# Altium footprint library pcb_mpptCharger.PcbLib: 10 footprints
Each footprint in its own frame and in the unit in brackets; x right, y up, seen from the top. Pads: shape width x height; smd on the part's side, far side on the other; paste and mask are expansions set on the pad; w line width, h text height; cw(c..) or ccw(c..) is an arc to the next point about the centre after c.
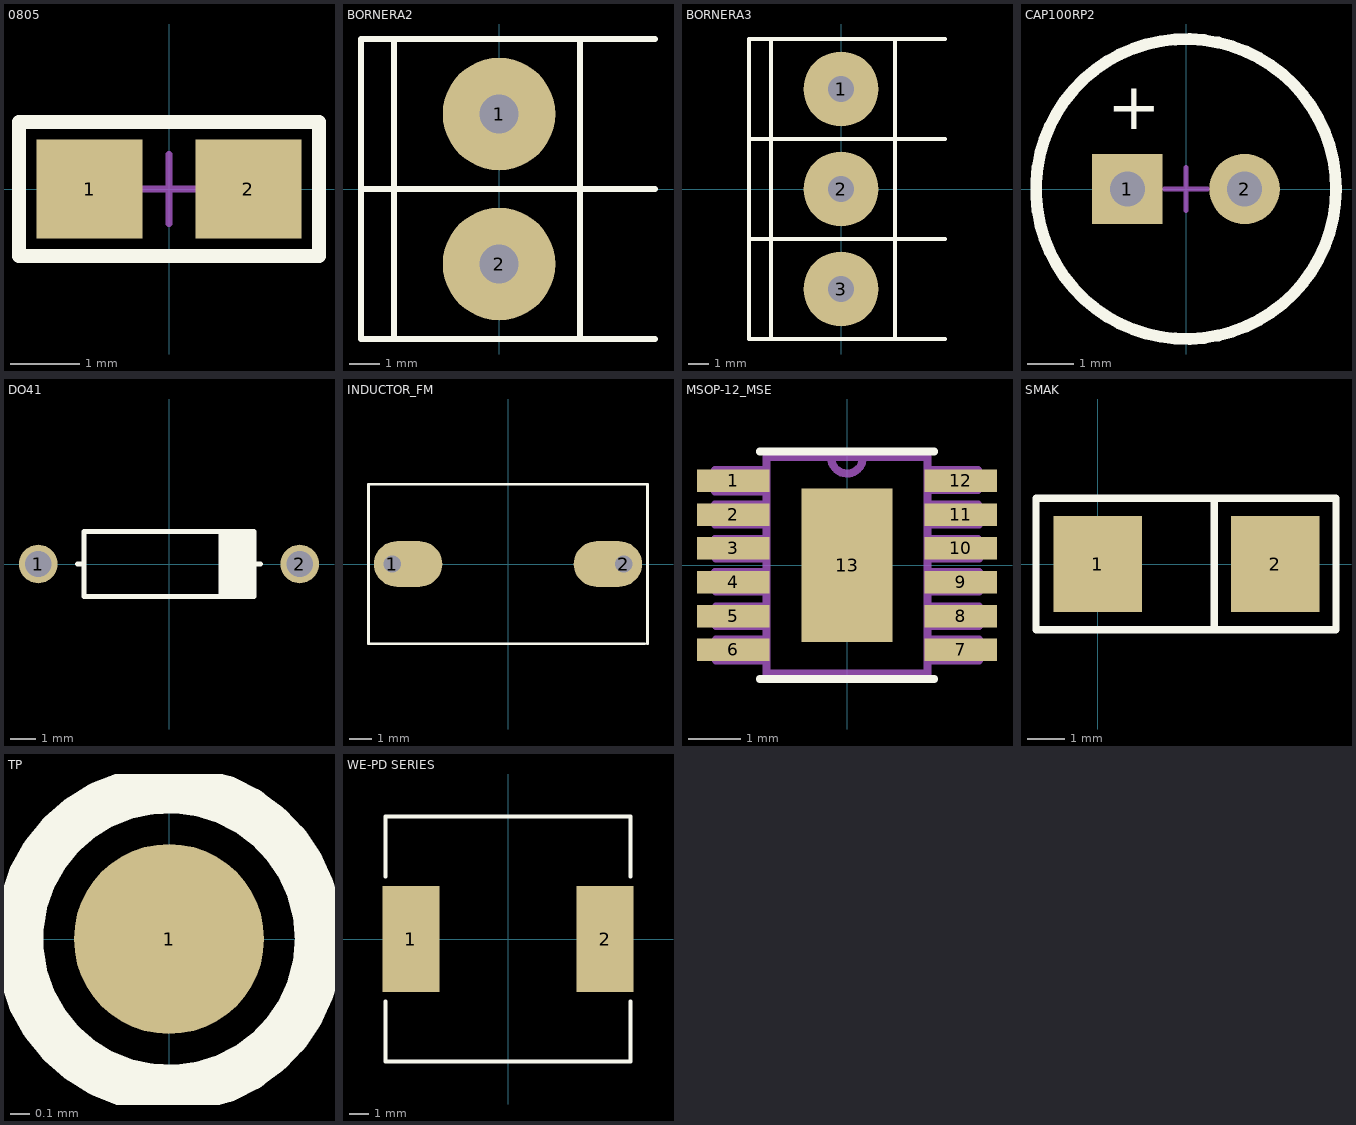
[diagram p0: the footprints below, top view; thin cyan lines are the x and y axes]

## 0805 [mil]
pads (2):
  rect 60x56 smd: 1(-45,0) 2(45,0)
Top Overlay:
  lines w7.87: -85,-38 -85,38 85,38 85,-38 -85,-38
Mechanical 15:
  lines w3.94: -19.69,0 19.68,0 ; 0,-19.68 0,19.68
3D body "0805.STEP": height 15.35, standoff -0.79, extent -39.5,-24.5 39.24,24.71

## BORNERA2 [mm]
pads (2):
  round 3.75 hole 1.3: 1(0,2.5) 2(0,-2.5)
Top Overlay:
  lines w0.2: -4.6,0 5.2,0 ; -3.5,-5 -3.5,5 ; 2.7,-5 2.7,5 ; 5.2,-5 -4.6,-5 -4.6,5 5.2,5
3D body "BORNERA_2.step": height 10, standoff -2.28, extent -3.763,-4.892 3.937,5.607

## BORNERA3 [mm]
pads (3):
  round 3.75 hole 1.3: 1(0,5) 2(0,0) 3(0,-5)
Top Overlay:
  lines w0.2: -4.6,-2.5 5.2,-2.5 ; -4.6,2.5 5.2,2.5 ; -3.5,-7.5 -3.5,7.5 ; 2.7,-7.5 2.7,7.5 ; 5.2,-7.5 -4.6,-7.5 -4.6,7.5 5.2,7.5
3D body "BORNERA_3.step": height 10.05, standoff -2.24, extent -3.763,-7.392 3.937,8.107

## CAP100RP2 [mil]
pads (2):
  rect 60x60 hole 30: 1(-50,0)
  round 60 hole 30: 2(50,0)
Top Overlay:
  circle w10: c0,0 r127.95
  text "+" at -67,51 h40
Mechanical 15:
  lines w3.94: -18.7,0 18.7,0 ; 0,-18.7 0,18.7
3D body "User Library-Cap electro 6_3x11x2_5mm.step": height 453.76, standoff -118.67, extent -124,-125.02 126.03,125.02

## DO41 [mm]
pads (2):
  round 1.5 hole 1.016: 1(-5.08,0) 2(5.08,0)
Top Overlay:
  rectangle: 2.032,-1.27 3.302,1.27
  lines w0.2: -3.556,0 -3.302,0 ; 2.032,-1.27 2.032,1.27 ; 3.302,0 3.556,0 ; -3.302,-1.27 3.302,-1.27 3.302,1.27 -3.302,1.27 -3.302,-1.27
3D body "DO41.step": height 2.03, standoff -3.06, extent -5.461,-1.194 5.461,1.372

## INDUCTOR_FM [mm]
pads (2):
  oval 3x2 hole 0.762 copper offset 0.7,0: 1(-5.08,0)
  oval 3x2 hole 0.762 copper offset -0.7,0: 2(5.08,0)
Top Overlay:
  lines w0.127: 6,-3.5 -6.127,-3.5 -6.127,3.5 6.127,3.5 6.127,-3.5

## MSOP-12_MSE [mil]
pads (13):
  rect 55x17 smd: 1(-86,64) 2(-86,38.4) 3(-86,12.8) 4(-86,-12.8) 5(-86,-38.4) 6(-86,-64) 7(86,-64) 8(86,-38.4) 9(86,-12.8) 10(86,12.8) 11(86,38.4) 12(86,64)
  rect 69x116 smd paste-78.74: 13(0,0)
Top Overlay:
  lines w6: -66,-86 66,-86 ; -66,86 66,86
Top Paste:
  region: 30.56,3.94 -30.56,3.94 -30.56,54.06 30.56,54.06
  region: 30.56,-54.06 -30.56,-54.06 -30.56,-3.94 30.56,-3.94
Mechanical 13:
  lines w6: -12,81.08 ccw(c0,81.5) 12,81.92 ; -100,-5 -61,-5 -61,-20 -99,-20 -100,-5 ; -100,20 -61,20 -61,5 -99,5 -100,20 ; -100,31 -100,46 -61,46 -61,31 -100,31 ; -100,56 -100,72 -61,72 -61,56 -100,56 ; -99,-72 -99,-56 -61,-56 -61,-72 -99,-72 ; -99,-46 -99,-31 -61,-31 -61,-46 -99,-46 ; -61,-82 61,-82 61,82 12,82 -61,82 -61,-82 ; 61,-72 61,-56 100,-56 100,-72 61,-72 ; 61,-46 61,-31 100,-31 100,-46 61,-46 ; 61,-20 61,-5 100,-5 100,-20 61,-20 ; 61,5 61,20 99,20 100,5 61,5 ; 61,31 61,46 99,46 100,31 61,31 ; 61,57 61,72 99,72 99,57 61,57
3D body "step_temp.STEP": height 41.93, standoff -1.38, extent -96.46,-79.51 96.46,79.51

## SMAK [mm]
pads (2):
  rect 2.4x2.6 smd: 1(0,0) 2(4.8,0)
Top Overlay:
  lines w0.2: 3.149,-1.778 3.149,1.778 ; -1.677,-1.778 6.451,-1.778 6.451,1.778 -1.677,1.778 -1.677,-1.778
3D body "SMA.step": height 2.4, standoff 0, extent -0.187,-1.305 5.013,1.295

## TP [mm]
pads (1):
  round 1 smd: 1(0,0)
Top Overlay:
  circle w0.254: c0,0 r0.789

## WE-PD SERIES [mm]
pads (2):
  rect 2.9x5.4 smd: 1(-4.95,0) 2(4.95,0)
Top Overlay:
  lines w0.2: -6.25,-3.175 -6.25,-6.25 6.25,-6.25 6.25,-3.175 ; -6.25,3.175 -6.25,6.25 6.25,6.25 6.25,3.175
3D body "WE-PD SERIES.STEP": height 7.95, standoff -0.05, extent -6.025,-6.031 5.975,5.969